# EAGLE library part MAX4564EKA+T (library MAX4564)
Analogue Switch Single SPDT Maxim MAX4564EKA+T, Analogue Switch Single SPDT, 1.8 12 V, 8-Pin SOT-23 Source: Datasheet <https://datasheets.maximintegrated.com/en/ds/MAX4564.pdf>
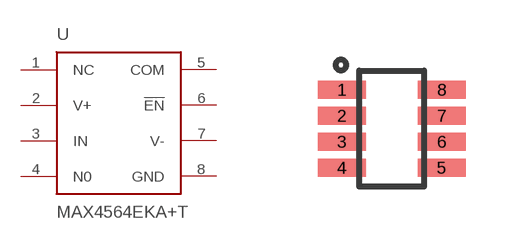
[diagram p1: symbol with the pads of SOT23-8; footprint SOT23-8]

Designator prefix U

## MAX4564EKA+T (DESCRIPTION: Analogue Switch Single SPDT Maxim MAX4564EKA+T, Analogue Switch Single SPDT, 1.8 12 V, 8-Pin SOT-23; HEIGHT: 1.45mm; MANUFACTURER_NAME: Maxim Integrated; MANUFACTURER_PART_NUMBER: MAX4564EKA+T; MOUSER_PART_NUMBER: 700-MAX4564EKA+T; MOUSER_PRICE-STOCK: https://www.mouser.co.uk/ProductDetail/Maxim-Integrated/MAX4564EKA%2bT/?qs=LHmEVA8xxfZhut6YodEzCw%3D%3D)  [SOT23-8]
1  NC
2  V+
3  IN
4  N0
5  COM
6  !EN
7  V-
8  GND

## Footprint SOT23-8 (pad centres in mm)
21-00078 (8L
smd 1.2 x 0.45: 1 -1.25,0.975; 2 -1.25,0.325; 3 -1.25,-0.325; 4 -1.25,-0.975; 5 1.25,-0.975; 6 1.25,-0.325; 7 1.25,0.325; 8 1.25,0.975